# Altium schematic symbol library SCH_VoltageRegulators.SchLib: 5 symbols
Pins are listed as number, name and electrical type; pins without a type are passive.

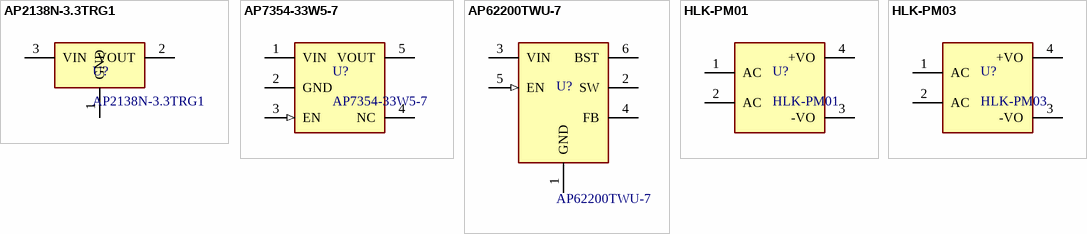
[diagram p0: symbols AP2138N-3.3TRG1 to HLK-PM03]

## AP2138N-3.3TRG1
designator U?
LDO 3.3V 0.25A SOT23-3; Manufacturer: Diodes; Number of Outputs: 1; Min Input Voltage: 2.5V; Max Input Voltage: 6.6V; Dropout Voltage: 400mV; Output Current: 250mA; Quiescent Current: 1uA; Polarity: Positive; Accuracy: 2%; Output Type: Fixed; Supplier 1: LCSC; Manufacturer Part Number: AP2138N-3.3TRG1; RoHS: Yes; Category: Voltage Regulators - Linear; Stock 1: 7463; Pricing 1: 1=0,19610, 10=0,13620, 30=0,10190, 100=0,08800, 500=0,07140, 1000=0,06770 (USD); Mount: Surface Mount; Case/Package: SOT-23-3; Number of Pins: 3; Weight: 0.000282oz; Min Operating Temperature: -40°C; Max Operating Temperature: 85°C; Packaging: Tape and Reel; Output Voltage: 3.3V; Package Quantity: 3000; Number of Regulators: 1; Max Output Current: 250mA; Length: 3.02mm; Width: 1.7mm; Height: 1.3mm; Lead Free: Lead Free; RoHS Compliant: Yes; ComponentLink1URL: https://datasheet.ciiva.com/29568/ap2138-9-29568816.pdf?src-supplier=Digi-Key; ComponentLink1Description: https://datasheet.ciiva.com/29568/ap2138-9-29568816.pdf?src-supplier=Digi-Key; ComponentLink2URL: https://datasheet.ciiva.com/30016/ap2138-9-30016777.pdf?src-supplier=Avnet; ComponentLink2Description: https://datasheet.ciiva.com/30016/ap2138-9-30016777.pdf?src-supplier=Avnet; ComponentLink3URL: https://datasheet.ciiva.com/29569/ap2138-9-29569023.pdf?src-supplier=Digi-Key; ComponentLink3Description: https://datasheet.ciiva.com/29569/ap2138-9-29569023.pdf?src-supplier=Digi-Key; ComponentLink4URL: https://datasheet.ciiva.com/29569/ap2138-9-29569022.pdf?src-supplier=Digi-Key; ComponentLink4Description: https://datasheet.ciiva.com/29569/ap2138-9-29569022.pdf?src-supplier=Digi-Key; Supplier Part Number 1: C154771
footprint SOT-23-3
pins: 1 GND (power), 2 VOUT (power), 3 VIN (power)

## AP7354-33W5-7
designator U?
LDO 3.3V 0.15A SOT25-5; Manufacturer: Diodes; Output Type: Fixed; Output Configuration: Positive; Number of Regulators: 1; Max Input Voltage: 5.5V; Dropout Voltage: 350mV; Output Current: 150mA; Quiescent Current: 600nA; Supplier 1: LCSC; Manufacturer Part Number: AP7354-33W5-7; RoHS: Yes; Stock 1: 2276; Pricing 1: 1=0,32350, 10=0,26650, 30=0,24210, 100=0,21170, 500=0,19820, 1000=0,19000 (USD); Mount: Surface Mount; Case/Package: SOT-25-5; Min Operating Temperature: -40°C; Max Operating Temperature: 85°C; Packaging: Cut Tape; Min Output Voltage: 3.3V; RoHS Compliant: Yes; ComponentLink1URL: https://www.diodes.com/assets/Datasheets/AP7354.pdf?src-supplier=Digi-Key; ComponentLink1Description: https://www.diodes.com/assets/Datasheets/AP7354.pdf?src-supplier=Digi-Key; Supplier Part Number 1: C460386; Category: Voltage Regulators - Linear
footprint SOT25-5
pins: 1 VIN (power), 2 GND (power), 3 EN (in), 4 NC, 5 VOUT (power)

## AP62200TWU-7
designator U?, comment Manufacturer Part Number: AP62200TWU-7  (hidden comment: AP62200TWU)
DCDC BUCK 2A TSOT26; Manufacturer: Diodes; Supplier 1: Digi-Key; RoHS: Yes; Category: Voltage Regulators - Switching; Stock 1: 20639; Pricing 1: 1=0,47000, 10=0,38400, 25=0,35080, 100=0,26120, 250=0,23668, 500=0,19588, 1000=0,14692 (USD); Supplier Part Number 1: 31-AP62200TWU-7CT-ND; Case/Package: TSOT-26-6
footprint TSOT-26
pins: 1 GND (power), 2 SW, 3 VIN (power), 4 FB, 5 EN (in), 6 BST

## HLK-PM01
designator U?
ACDC POWER SUPPLY 5V 0.6A; Manufacturer: Hi-Link; Supplier 1: LCSC; Manufacturer Part Number: HLK-PM01; RoHS: Yes; Category: AC-DC; Stock 1: 43; Pricing 1: 1=3,01320, 10=2,63300, 30=2,39600, 100=2,15250, 500=2,04280, 1000=1,99500 (USD); Supplier Part Number 1: C209903; Case/Package: PTH-4; ComponentLink1Description: Datasheet; ComponentLink1URL: https://datasheet.lcsc.com/szlcsc/1909111105_HI-LINK-HLK-PM24_C399250.pdf
footprint HLK-PM
pins: 1 AC, 2 AC, 3 -VO, 4 +VO (power)

## HLK-PM03
designator U?
ACDC POWER SUPPLY 3.3V 1A; Manufacturer: Hi-Link; Supplier 1: LCSC; Manufacturer Part Number: HLK-PM03; RoHS: Yes; Stock 1: 344; Pricing 1: 1=2,80160, 10=2,42140, 30=2,18440, 100=1,94100, 500=1,83120, 1000=1,78350 (USD); Supplier Part Number 1: C209904; Case/Package: PTH-4; Category: AC-DC; ComponentLink1Description: Datasheet; ComponentLink1URL: https://datasheet.lcsc.com/szlcsc/1909111105_HI-LINK-HLK-PM24_C399250.pdf
footprint HLK-PM
pins: 1 AC, 2 AC, 3 -VO, 4 +VO (power)